# EAGLE library part TPL5110DDCR (library weather_station)
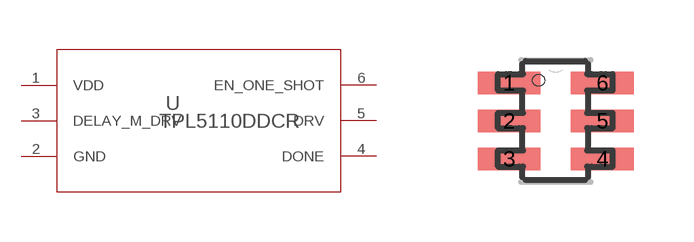
[diagram p12: symbol with the pads of DDC0006A_N; footprint DDC0006A_N]

Designator prefix U

## TPL5110DDCR (COMPTYPE: IC; MANUFACTURER: Texas Instruments; MOUNTTYPE: SMT; PACKAGEREFERENCE: DDC0006A; PARTNUMBER: TPL5110DDC; PIN_COUNT: 6; REFDES: RefDes; ROHS: Y; TYPE: TYPE; VALUE: Value)  [DDC0006A_N]
1  VDD  pwr
2  GND  pwr
3  DELAY_M_DRV  in
4  DONE  in
5  DRV  out
6  EN_ONE_SHOT  out

## Footprint DDC0006A_N (pad centres in mm)
smd 1.575 x 0.559: 1 -1.168,0.95; 2 -1.168,0; 3 -1.168,-0.95; 4 1.168,-0.95; 5 1.168,0; 6 1.168,0.95